# EAGLE library part AOSD32334C (library Alpha Omega)
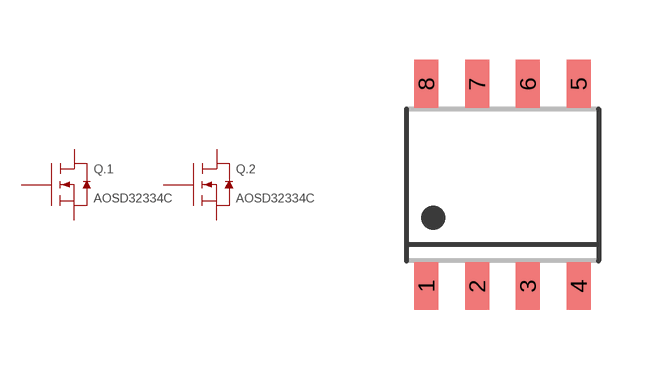
[diagram p2: symbol with the pads of SOIC8; footprint SOIC8]

Designator prefix Q; gates .1=NMOS .2=NMOS

## AOSD32334C  [SOIC8]
1  .2:S  pas
2  .2:G  pas
3  .1:S  pas
4  .1:G  pas
5  .1:D  pas
6  .1:D  pas
7  .2:D  pas
8  .2:D  pas

## Footprint SOIC8 (pad centres in mm)
smd 0.6 x 1.194: 1 -1.905,-2.527; 2 -0.635,-2.527; 3 0.635,-2.527; 4 1.905,-2.527; 5 1.905,2.527; 6 0.635,2.527; 7 -0.635,2.527; 8 -1.905,2.527